# Altium footprint library YFF15PC.PcbLib: 1 footprints
Each footprint in its own frame and in the unit in brackets; x right, y up, seen from the top. Pads: shape width x height; smd on the part's side, far side on the other; paste and mask are expansions set on the pad; w line width, h text height; cw(c..) or ccw(c..) is an arc to the next point about the centre after c.
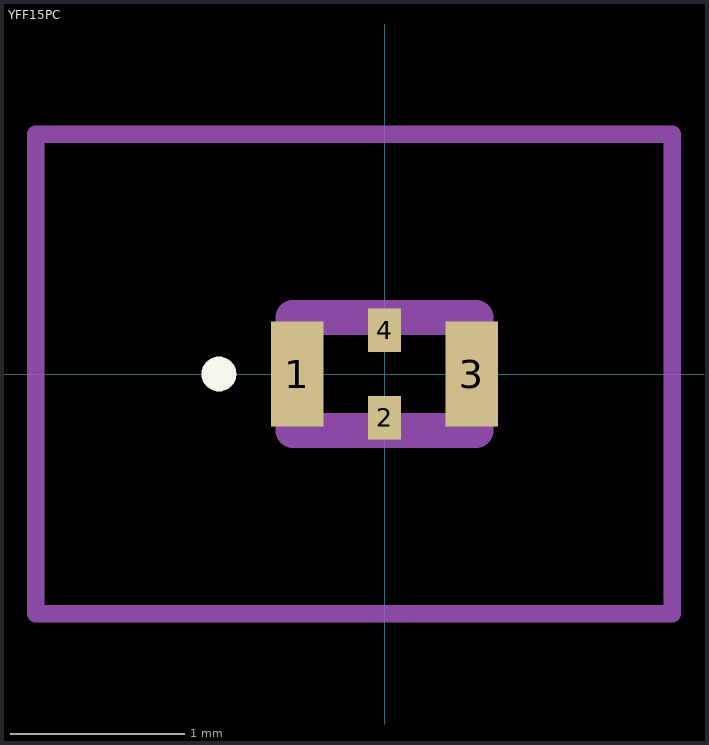
[diagram p0: the footprint, top view; thin cyan lines are the x and y axes]

## YFF15PC [mm]
pads (4):
  rect 0.3x0.6 smd: 1(-0.5,0) 3(0.5,0)
  rect 0.19x0.25 smd: 2(0,-0.25) 4(0,0.25)
Top Overlay:
  lines w0.1: -1,0 -1,0 ; -1,0 ccw(c-0.95,0) -0.9,0 ; -1,0 cw(c-0.95,0) -0.9,0 ; -0.9,0 -0.9,0
Mechanical 15:
  lines w0.2: -0.525,-0.325 0.525,-0.325 0.525,0.325 -0.525,0.325 -0.525,-0.325
Mechanical 20:
  lines w0.1: -2,-1.375 1.65,-1.375 ; -2,-1.375 -2,1.375 ; -2,-1.375 1.65,-1.375 ; -2,-1.375 -2,1.375 ; -2,1.375 1.65,1.375 ; -2,1.375 1.65,1.375 ; 1.65,-1.375 1.65,1.375 ; 1.65,-1.375 1.65,1.375